# Altium footprint library HAB_Lib.PcbLib: 104 footprints (part 7 of 7)
Each footprint in its own frame and in the unit in brackets; x right, y up, seen from the top. Pads: shape width x height; smd on the part's side, far side on the other; paste and mask are expansions set on the pad; w line width, h text height; cw(c..) or ccw(c..) is an arc to the next point about the centre after c.
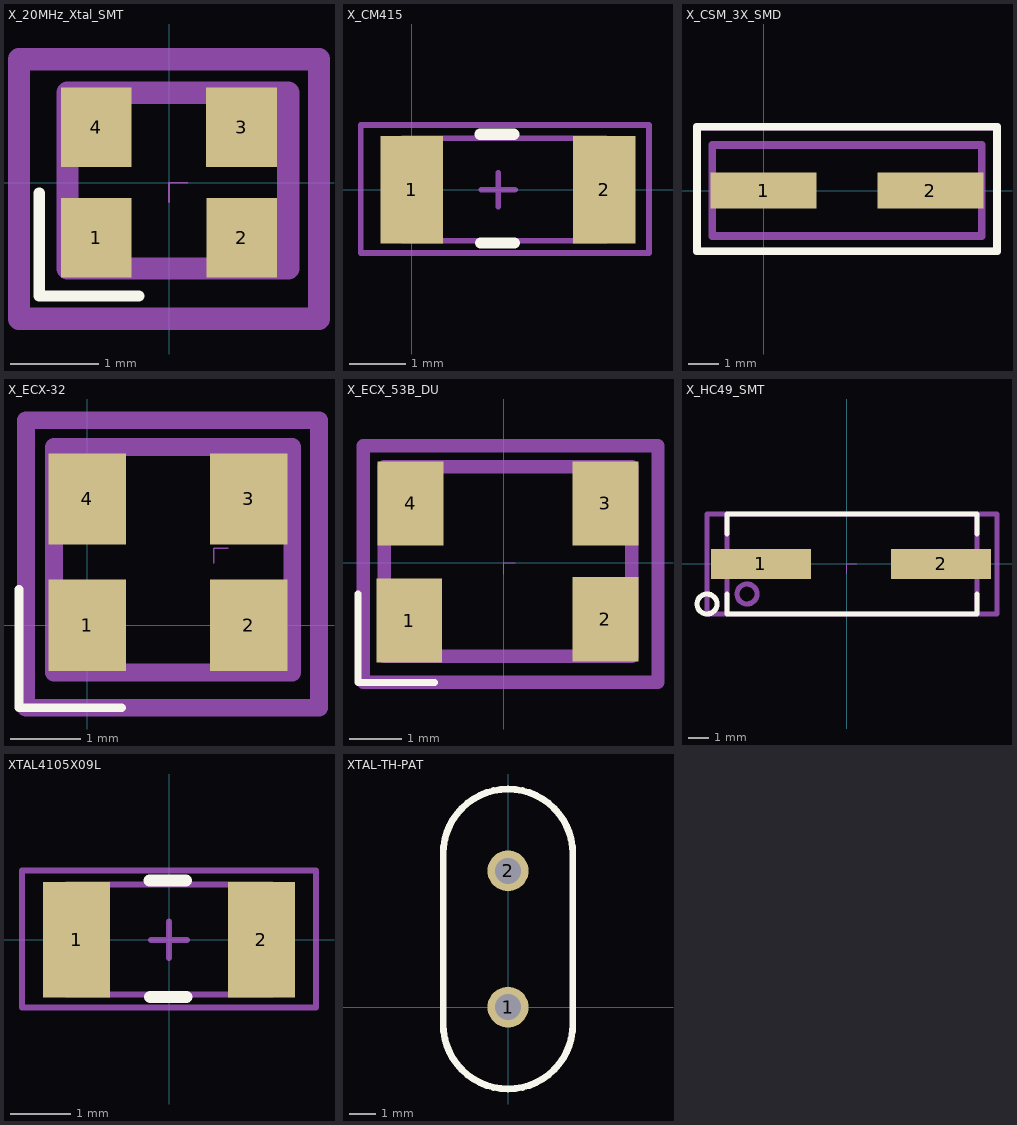
[diagram p6: the footprints below, top view; thin cyan lines are the x and y axes]

## X_20MHz_Xtal_SMT [mm] "CRYSTAL 20.000MHZ 10PF SMD"
height 0.5
pads (4):
  rect 0.8x0.9 smd: 1(-0.826,-0.624) 2(0.823,-0.622) 3(0.822,0.63) 4(-0.824,0.63)
Top Overlay:
  lines w0.127: -1.47,-0.117 -1.47,-1.286 -0.341,-1.286
Mechanical 13:
  circle w0.054: c-0.684,-0.523 r0.218
  lines w0.254: -1.151,-0.973 1.35,-0.973 1.35,1.021 -1.151,1.021 -1.151,-0.973
Mechanical 15:
  lines w0.02: 0,-0.22 0,0 0.211,0
  lines w0.254: -1.7,-1.543 1.7,-1.543 1.7,1.4 -1.7,1.4 -1.7,-1.543
3D body: height 0.5, standoff 0, extent -1.278,-1.1 1.477,1.148

## X_CM415 [mm]
height 0.9
pads (2):
  rect 1.1x1.9 smd: 1(0,0) 2(3.4,0)
Top Overlay:
  lines w0.2: 1.204,0.98 1.804,0.98 ; 1.215,-0.942 1.815,-0.942
Mechanical 13:
  lines w0.1: -0.162,-0.902 -0.162,0.912 3.429,0.912 3.429,-0.902 -0.162,-0.902
Mechanical 15:
  lines w0.1: 1.225,0 1.825,0 ; 1.525,-0.3 1.525,0.3 ; -0.9,-1.117 -0.9,1.143 4.191,1.143 4.191,-1.117 -0.9,-1.117
3D body: height 0.9, standoff 0, extent -0.091,-0.957 3.393,0.957

## X_CSM_3X_SMD [mm] "CRYSTAL 16.00000 MHZ 20PF SMD"
height 2.3
pads (2):
  rect 3.5x1.2 smd: 1(0,0) 2(5.5,0)
Top Overlay:
  lines w0.254: -2.2,-2 -2.2,2.1 7.7,2.1 7.7,-2 -2.2,-2
Mechanical 13:
  lines w0.254: -1.7,-1.5 -1.7,1.5 7.2,1.5 7.2,-1.5 -1.7,-1.5
Mechanical 15:
  lines w0.254: -2.2,-2 -2.2,2.1 7.7,2.1 7.7,-2 -2.2,-2
3D body: height 2.3, standoff 0, extent -1.827,-1.627 7.327,1.627

## X_ECX-32 [mm]
height 0.8
pads (4):
  rect 1.1x1.3 smd: 1(0,0) 2(2.3,0) 3(2.3,1.8) 4(0,1.8)
Top Overlay:
  lines w0.127: -0.974,0.507 -0.974,-1.176 0.485,-1.176
Mechanical 13:
  circle w0.054: c0.142,0.101 r0.218
  lines w0.254: -0.474,-0.676 -0.474,2.54 2.921,2.54 2.921,-0.676 -0.474,-0.676
Mechanical 15:
  lines w0.02: 1.8,0.88 1.8,1.1 2.011,1.1
  lines w0.254: -0.874,-1.176 -0.874,2.921 3.302,2.921 3.302,-1.176 -0.874,-1.176

## X_ECX_53B_DU [mm] "CRYSTAL SMD"
height 0.85
pads (4):
  rect 1.25x1.6 smd: 1(-1.8,-1.1) 2(1.926,-1.076) 3(1.926,1.124) 4(-1.774,1.124)
Top Overlay:
  lines w0.127: -2.774,-0.593 -2.774,-2.276 -1.315,-2.276
Mechanical 13:
  circle w0.054: c-1.658,-0.999 r0.218
  lines w0.254: -2.274,-1.776 -2.274,1.824 2.426,1.824 2.426,-1.776 -2.274,-1.776
Mechanical 15:
  lines w0.02: 0,-0.22 0,0 0.211,0
  lines w0.254: -2.674,-2.276 -2.674,2.224 2.926,2.224 2.926,-2.276 -2.674,-2.276
3D body: height 0.85, standoff 0, extent -2.273,-1.775 2.425,1.824

## X_HC49_SMT [mm] "CRYSTAL 20.000 MHZ 20PF SMD"
height 4.2
pads (2):
  rect 5x1.5 smd: 1(-4.3,0) 2(4.7,0)
Top Overlay:
  circle w0.254: c-7,-2 r0.5
  lines w0.254: -6,-1.5 -6,-2.5 6.5,-2.5 6.5,-1.5 ; -6,1.5 -6,2.5 6.5,2.5 6.5,1.5
Mechanical 13:
  circle w0.254: c-5,-1.5 r0.5
  lines w0.254: -6,-2.5 -6,2.5 6.5,2.5 6.5,-2.5 -6,-2.5
Mechanical 15:
  lines w0.054: 0,-0.5 0,0 0.5,0
  lines w0.254: -7,-2.5 -7,2.5 7.5,2.5 7.5,-2.5 -7,-2.5
3D body: height 4.2, standoff 0, extent -5.999,-2.499 6.499,2.499

## XTAL4105X09L [mm] "Chip Crystal, 2-Leads, Body 4.1x0.5mm, IPC High Density"
height 0.9
pads (2):
  rect 1.1x1.9 smd: 1(-1.525,0) 2(1.525,0)
Top Overlay:
  lines w0.2: -0.321,0.98 0.279,0.98 ; -0.31,-0.942 0.29,-0.942
Mechanical 13:
  lines w0.1: -1.687,-0.902 1.697,-0.902 1.697,0.912 -1.687,0.912 -1.687,-0.902
Mechanical 15:
  lines w0.1: -0.3,0 0.3,0 ; 0,-0.3 0,0.3 ; -2.425,-1.117 2.425,-1.117 2.425,1.143 -2.425,1.143 -2.425,-1.117
3D body: height 0.9, standoff 0, extent -1.737,-0.952 1.747,0.962

## XTAL-TH-PAT [mil]
pads (2):
  round 60 hole 38: 1(0,0) 2(0,200)
Top Overlay:
  lines w10: -95,-25 ccw(c0,-25) 95,-25 95,225 ccw(c0,225) -95,225 -95,-25